# EAGLE library part HEADER2X5 (library dp_devices)
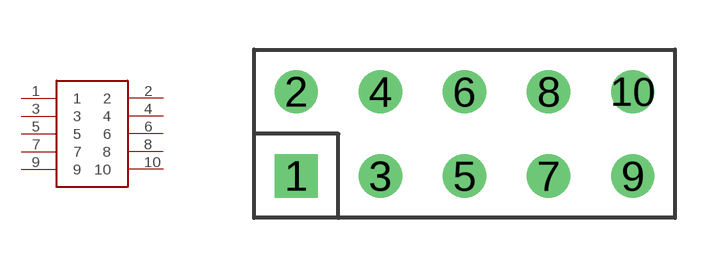
[diagram p26: symbol with the pads of M2X5; footprint M2X5]

Designator prefix -

## HEADER2X5PTH  [M2X5]
1  1
2  2
3  3
4  4
5  5
6  6
7  7
8  8
9  9
10  10

## Footprint M2X5 (pad centres in mm)
drill 0.8 square: 1 -5.08,-1.27
drill 0.8 round: 2 -5.08,1.27; 3 -2.54,-1.27; 4 -2.54,1.27; 5 0,-1.27; 6 0,1.27; 7 2.54,-1.27; 8 2.54,1.27; 9 5.08,-1.27; 10 5.08,1.27